# Altium schematic symbol library RES POT 200.Schlib: 1 symbol
Pins are listed as number, name and electrical type; pins without a type are passive.

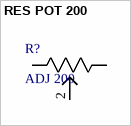
[diagram p0: symbol RES POT 200]

## RES POT 200
designator R?, comment ADJ 200
SMD Potentiometer 200Ohm Range
footprint POT SMD (SMD Potentiometer NIDEC ST32EB)
pins: 1, 2, 3